# Altium schematic symbol library SCH - POWER - SWITCHMODE - TI TPS65563A_RGT_16.SchLib: 1 symbol
Pins are listed as number, name and electrical type; pins without a type are passive.

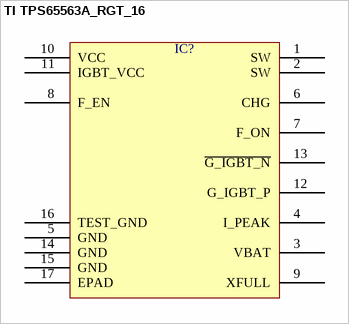
[diagram p0: symbol TI TPS65563A_RGT_16]

## TI TPS65563A_RGT_16
designator IC?  (value not drawn)
pins: 1 SW, 2 SW, 3 VBAT, 4 I_PEAK, 5 GND, 6 CHG, 7 F_ON, 8 F_EN, 9 XFULL, 10 VCC, 11 IGBT_VCC, 12 G_IGBT_P, 13 ~{G_IGBT_N}, 14 GND, 15 GND, 16 TEST_GND, 17 EPAD